# Altium footprint library CA_1210_H25.PcbLib: 1 footprints
Each footprint in its own frame and in the unit in brackets; x right, y up, seen from the top. Pads: shape width x height; smd on the part's side, far side on the other; paste and mask are expansions set on the pad; w line width, h text height; cw(c..) or ccw(c..) is an arc to the next point about the centre after c.
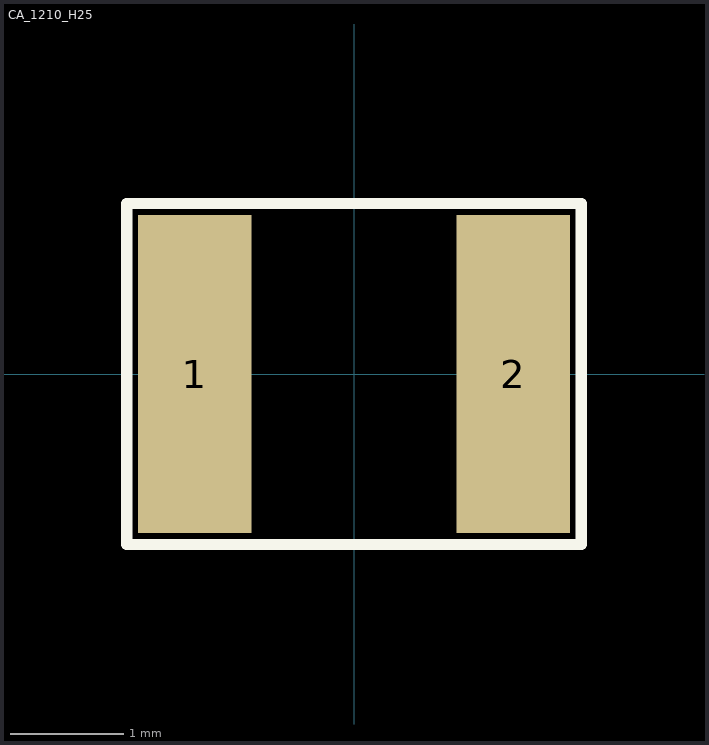
[diagram p0: the footprint, top view; thin cyan lines are the x and y axes]

## CA_1210_H25 [mm] "Chip Capacitor, 2-Leads, Body 3.1x2.5mm, IPC Medium Density"
height 2.5
pads (2):
  rect 1x2.8 smd: 1(-1.4,0) 2(1.4,0)
Top Overlay:
  lines w0.1: -2,-1.5 2,-1.5 2,1.5 -2,1.5 -2,-1.5
3D body: height 2.5, standoff 0, extent -1.4,-1.4 1.4,1.4